# EAGLE library part FT232RL (library PCB_KioskMB_r3.3-05)
USB 2.0 to RS232 transfer interface IC
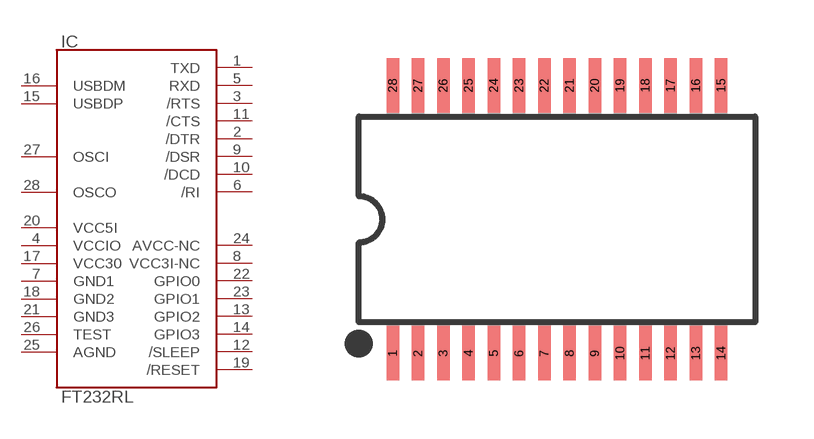
[diagram p10: symbol with the pads of SSOP28DB; footprint SSOP28DB]

Designator prefix IC

## FT232RL  [SSOP28DB]
1  TXD  out
2  /DTR  out
3  /RTS  out
4  VCCIO  pwr
5  RXD  in
6  /RI
7  GND1  pwr
8  VCC3I-NC  nc
9  /DSR
10  /DCD
11  /CTS
12  /SLEEP
13  GPIO2  out
14  GPIO3
15  USBDP
16  USBDM
17  VCC30  pwr
18  GND2  pwr
19  /RESET
20  VCC5I  pwr
21  GND3  pwr
22  GPIO0  out
23  GPIO1  out
24  AVCC-NC  nc
25  AGND  pwr
26  TEST
27  OSCI
28  OSCO  out

## Footprint SSOP28DB (pad centres in mm)
SSOP28, 5.8x10.2mm 0.65mm pitch
smd 0.32 x 1.4: 1 -4.225,-3.45; 2 -3.575,-3.45; 3 -2.925,-3.45; 4 -2.275,-3.45; 5 -1.625,-3.45; 6 -0.975,-3.45; 7 -0.325,-3.45; 8 0.325,-3.45; 9 0.975,-3.45; 10 1.625,-3.45; 11 2.275,-3.45; 12 2.925,-3.45; 13 3.575,-3.45; 14 4.225,-3.45; 15 4.225,3.45; 16 3.575,3.45; 17 2.925,3.45; 18 2.275,3.45; 19 1.625,3.45; 20 0.975,3.45; 21 0.325,3.45; 22 -0.325,3.45; 23 -0.975,3.45; 24 -1.625,3.45; 25 -2.275,3.45; 26 -2.925,3.45; 27 -3.575,3.45; 28 -4.225,3.45